# Altium schematic symbol library Button.SchLib: 1 symbol
Pins are listed as number, name and electrical type; pins without a type are passive.

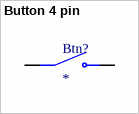
[diagram p0: symbol Button 4 pin]

## Button 4 pin
designator Btn?
MP: B3F-4055; Price: None; Availability: Unavailable; Value: *; Package: None
footprint B3F-4055
pins: 1 COM, 2 COM, 3 NO, 4 NO